# Altium footprint library FK743M5-XIH6 模块-封装库.PcbLib: 1 footprints
Each footprint in its own frame and in the unit in brackets; x right, y up, seen from the top. Pads: shape width x height; smd on the part's side, far side on the other; paste and mask are expansions set on the pad; w line width, h text height; cw(c..) or ccw(c..) is an arc to the next point about the centre after c.
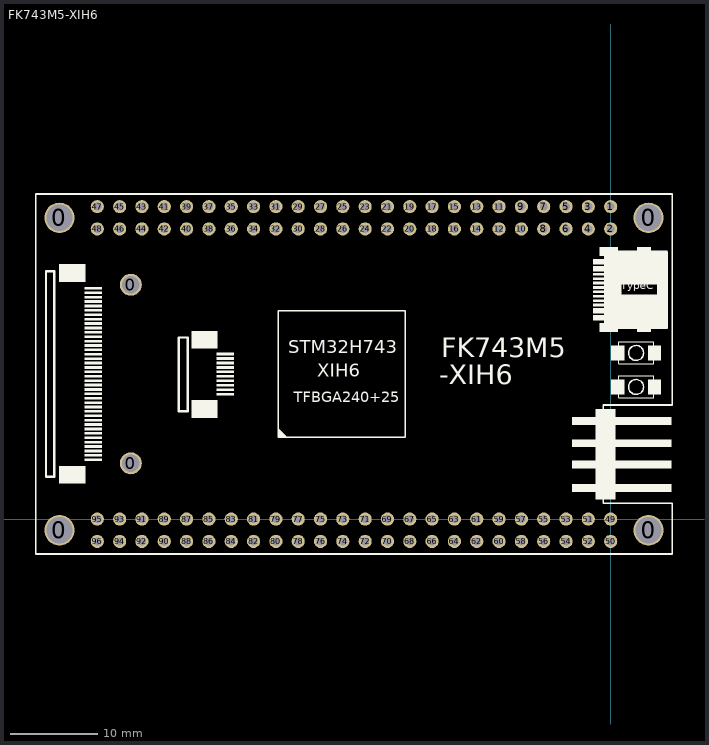
[diagram p0: the footprint, top view; thin cyan lines are the x and y axes]

## FK743M5-XIH6 [mm]
pads (102):
  round 3.45 hole 3: 0(-62.73,-1.27) 0(-62.73,34.29) 0(4.31,-1.27) 0(4.31,34.29)
  round 2.5 hole 2: 0(-54.61,6.35) 0(-54.61,26.67)
  round 1.5 hole 0.9: 1(0,35.56) 2(0,33.02) 3(-2.54,35.56) 4(-2.54,33.02) 5(-5.08,35.56) 6(-5.08,33.02) 7(-7.62,35.56) 8(-7.62,33.02) 9(-10.16,35.56) 10(-10.16,33.02) 11(-12.7,35.56) 12(-12.7,33.02) 13(-15.24,35.56) 14(-15.24,33.02) 15(-17.78,35.56) 16(-17.78,33.02) 17(-20.32,35.56) 18(-20.32,33.02) 19(-22.86,35.56) 20(-22.86,33.02) 21(-25.4,35.56) 22(-25.4,33.02) 23(-27.94,35.56) 24(-27.94,33.02) 25(-30.48,35.56) 26(-30.48,33.02) 27(-33.02,35.56) 28(-33.02,33.02) 29(-35.56,35.56) 30(-35.56,33.02) 31(-38.1,35.56) 32(-38.1,33.02) 33(-40.64,35.56) 34(-40.64,33.02) 35(-43.18,35.56) 36(-43.18,33.02) 37(-45.72,35.56) 38(-45.72,33.02) 39(-48.26,35.56) 40(-48.26,33.02) 41(-50.8,35.56) 42(-50.8,33.02) 43(-53.34,35.56) 44(-53.34,33.02) 45(-55.88,35.56) 46(-55.88,33.02) 47(-58.42,35.56) 48(-58.42,33.02) 49(0,0) 50(0,-2.54) 51(-2.54,0) 52(-2.54,-2.54) 53(-5.08,0) 54(-5.08,-2.54) 55(-7.62,0) 56(-7.62,-2.54) 57(-10.16,0) 58(-10.16,-2.54) 59(-12.7,0) 60(-12.7,-2.54) 61(-15.24,0) 62(-15.24,-2.54) 63(-17.78,0) 64(-17.78,-2.54) 65(-20.32,0) 66(-20.32,-2.54) 67(-22.86,0) 68(-22.86,-2.54) 69(-25.4,0) 70(-25.4,-2.54) 71(-27.94,0) 72(-27.94,-2.54) 73(-30.48,0) 74(-30.48,-2.54) 75(-33.02,0) 76(-33.02,-2.54) 77(-35.56,0) 78(-35.56,-2.54) 79(-38.1,0) 80(-38.1,-2.54) 81(-40.64,0) 82(-40.64,-2.54) 83(-43.18,0) 84(-43.18,-2.54) 85(-45.72,0) 86(-45.72,-2.54) 87(-48.26,0) 88(-48.26,-2.54) 89(-50.8,0) 90(-50.8,-2.54) 91(-53.34,0) 92(-53.34,-2.54) 93(-55.88,0) 94(-55.88,-2.54) 95(-58.42,0) 96(-58.42,-2.54)
Top Overlay:
  circle w0.15: c2.895,15.04 r0.85
  circle w0.15: c2.895,18.912 r0.85
  region: -44.718,21.407 -47.716,21.407 -47.716,19.4 -44.718,19.4
  region: -44.718,13.533 -47.716,13.533 -47.716,11.526 -44.718,11.526
  region: -42.848,18.937 -44.855,18.937 -44.855,18.632 -42.848,18.632
  region: -42.848,18.429 -44.855,18.429 -44.855,18.124 -42.848,18.124
  region: -42.848,17.921 -44.855,17.921 -44.855,17.616 -42.848,17.616
  region: -42.848,17.413 -44.855,17.413 -44.855,17.108 -42.848,17.108
  region: -42.848,16.905 -44.855,16.905 -44.855,16.6 -42.848,16.6
  region: -42.848,16.397 -44.855,16.397 -44.855,16.092 -42.848,16.092
  region: -42.848,15.381 -44.855,15.381 -44.855,15.076 -42.848,15.076
  region: -42.848,15.889 -44.855,15.889 -44.855,15.584 -42.848,15.584
  region: -42.848,14.873 -44.855,14.873 -44.855,14.568 -42.848,14.568
  region: -42.848,14.365 -44.855,14.365 -44.855,14.06 -42.848,14.06
  region: -59.785,29.007 -62.782,29.007 -62.782,27 -59.785,27
  region: -59.785,6.07 -62.795,6.07 -62.795,4.064 -59.785,4.064
  region: -57.878,26.409 -59.885,26.409 -59.885,26.104 -57.878,26.104
  region: -57.878,25.909 -59.885,25.909 -59.885,25.604 -57.878,25.604
  region: -57.878,25.409 -59.885,25.409 -59.885,25.104 -57.878,25.104
  region: -57.878,24.909 -59.885,24.909 -59.885,24.604 -57.878,24.604
  region: -57.878,24.409 -59.885,24.409 -59.885,24.104 -57.878,24.104
  region: -57.878,23.909 -59.885,23.909 -59.885,23.604 -57.878,23.604
  region: -57.878,23.409 -59.885,23.409 -59.885,23.104 -57.878,23.104
  region: -57.878,22.909 -59.885,22.909 -59.885,22.604 -57.878,22.604
  region: -57.878,22.409 -59.885,22.409 -59.885,22.104 -57.878,22.104
  region: -57.878,21.909 -59.885,21.909 -59.885,21.604 -57.878,21.604
  region: -57.878,21.409 -59.885,21.409 -59.885,21.104 -57.878,21.104
  region: -57.878,20.909 -59.885,20.909 -59.885,20.604 -57.878,20.604
  region: -57.878,20.409 -59.885,20.409 -59.885,20.104 -57.878,20.104
  region: -57.878,19.909 -59.885,19.909 -59.885,19.604 -57.878,19.604
  region: -57.878,19.409 -59.885,19.409 -59.885,19.104 -57.878,19.104
  region: -57.878,18.909 -59.885,18.909 -59.885,18.604 -57.878,18.604
  region: -57.878,18.409 -59.885,18.409 -59.885,18.104 -57.878,18.104
  region: -57.878,17.909 -59.885,17.909 -59.885,17.604 -57.878,17.604
  region: -57.878,17.409 -59.885,17.409 -59.885,17.104 -57.878,17.104
  region: -57.878,16.909 -59.885,16.909 -59.885,16.604 -57.878,16.604
  region: -57.878,16.409 -59.885,16.409 -59.885,16.104 -57.878,16.104
  region: -57.878,15.909 -59.885,15.909 -59.885,15.604 -57.878,15.604
  region: -57.878,15.409 -59.885,15.409 -59.885,15.104 -57.878,15.104
  region: -57.878,14.909 -59.885,14.909 -59.885,14.604 -57.878,14.604
  region: -57.878,14.409 -59.885,14.409 -59.885,14.104 -57.878,14.104
  region: -57.878,13.909 -59.885,13.909 -59.885,13.604 -57.878,13.604
  region: -57.878,13.409 -59.885,13.409 -59.885,13.104 -57.878,13.104
  region: -57.878,12.909 -59.885,12.909 -59.885,12.604 -57.878,12.604
  region: -57.878,12.409 -59.885,12.409 -59.885,12.104 -57.878,12.104
  region: -57.878,11.909 -59.885,11.909 -59.885,11.604 -57.878,11.604
  region: -57.878,11.409 -59.885,11.409 -59.885,11.104 -57.878,11.104
  region: -57.878,10.909 -59.885,10.909 -59.885,10.604 -57.878,10.604
  region: -57.878,10.409 -59.885,10.409 -59.885,10.104 -57.878,10.104
  region: -57.878,9.909 -59.885,9.909 -59.885,9.604 -57.878,9.604
  region: -57.878,9.409 -59.885,9.409 -59.885,9.104 -57.878,9.104
  region: -57.878,8.909 -59.885,8.909 -59.885,8.604 -57.878,8.604
  region: -57.878,8.409 -59.885,8.409 -59.885,8.104 -57.878,8.104
  region: -57.878,7.909 -59.885,7.909 -59.885,7.604 -57.878,7.604
  region: -57.878,7.409 -59.885,7.409 -59.885,7.104 -57.878,7.104
  region: -57.878,6.909 -59.885,6.909 -59.885,6.604 -57.878,6.604
  rectangle: -2.007,28.98 -0.61,29.615
  rectangle: -2.007,28.193 -0.661,28.815
  rectangle: -2.007,23.392 -0.661,24.014
  rectangle: -2.007,22.592 -0.661,23.214
  rectangle: -2.007,27.71 -0.712,28.015
  rectangle: -2.007,27.202 -0.712,27.507
  rectangle: -2.007,26.707 -0.712,27.011
  rectangle: -2.007,26.211 -0.712,26.516
  rectangle: -2.007,25.703 -0.712,26.008
  rectangle: -2.007,25.208 -0.712,25.513
  rectangle: -2.007,24.7 -0.712,25.005
  rectangle: -2.007,24.205 -0.712,24.51
  rectangle: -0.75,26.707 6.477,30.593
  rectangle: -0.737,21.652 6.477,25.576
  rectangle: -0.737,25.386 1.257,27.011
  rectangle: 5.257,25.259 6.388,27.011
  rectangle: 2.971,21.271 4.597,22.401
  rectangle: -1.283,21.271 0.85,22.3
  rectangle: 2.971,29.962 4.597,30.948
  rectangle: -1.283,29.958 0.85,30.948
  rectangle: 0.061,18.062 1.585,19.764
  rectangle: 4.227,18.036 5.725,19.764
  rectangle: 0.061,14.176 1.585,15.903
  rectangle: 4.227,14.176 5.725,15.903
  rectangle: -1.735,2.218 0.551,12.505
  rectangle: -4.402,10.727 6.901,11.616
  rectangle: -4.402,8.187 6.901,9.076
  rectangle: -4.402,5.774 6.901,6.663
  rectangle: -4.402,3.107 6.901,3.996
  region: -37.782,9.333 -37.782,10.287 -36.828,9.333
  lines w0.127: 0.895,13.79 0.895,16.29 4.895,16.29 4.895,13.79 0.895,13.79 ; 0.895,17.662 4.895,17.662 4.895,20.162 0.895,20.162 0.895,17.662
  lines w0.152: -37.806,9.309 -23.404,9.309 -23.404,23.711 -37.806,23.711 -37.806,9.309
  lines w0.203: 1.076,21.766 2.854,21.766 ; 1.076,30.402 2.854,30.402 ; 4.886,21.759 6.415,21.759 6.415,30.409 4.886,30.409 ; -65.42,-3.96 -65.42,36.985 7,36.985 7,12.993 5.624,12.993 -0.834,12.993 -0.834,1.815 6.999,1.815 6.999,-3.96 -65.42,-3.96
  lines w0.254: -64.259,4.809 -63.333,4.809 -63.333,28.209 -64.259,28.209 -64.259,4.809 ; -49.157,12.26 -49.157,20.66 -48.141,20.66 -48.141,12.26 -49.157,12.26
  text "-XIH6" at -19.515,14.595 h3.81
  text "FK743M5" at -19.268,17.655 h3.81
  text "TFBGA240+25" at -36.069,12.889 h2.03
  text "STM32H743" at -36.704,18.35 h2.54
  text "XIH6" at -33.402,15.683 h2.54
  text "TypeC" at 1.13,25.843 h1.52
3D body "FK750M5-XBH6-V1.0.step": height 13.86, standoff 0.16, extent -65.42,-3.96 7,36.98